# Altium integrated library ICs - Transceivers.IntLib: 1 symbol
Pins are listed as number, name and electrical type; pins without a type are passive.

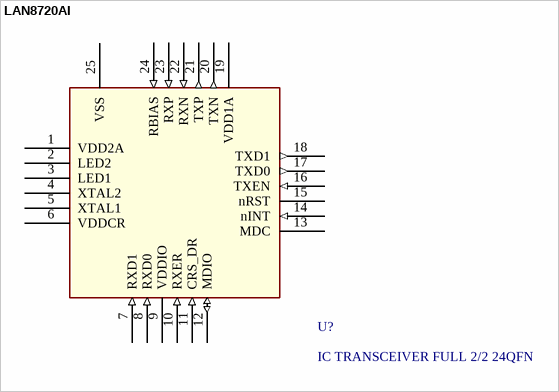
[diagram p0: symbol LAN8720AI]

## LAN8720AI
designator U?, comment IC TRANSCEIVER FULL 2/2 24QFN
2/2 Transceiver Full RMII 24-QFN-EP (4x4); Manufacturer 1: Microchip Technology; Manufacturer 1 PN: LAN8720AI-CP; ComponentLink1Description: Datasheet; ComponentLink1URL: http://ww1.microchip.com/downloads/en/devicedoc/8720a.pdf; Digikey PN: 638-1084-ND; Mouser PN: 886-LAN8720AI-CP
footprint LAN8720AI (2/2 Transceiver Full RMII 24-QFN-EP (4x4))
pins: 1 VDD2A (power), 2 LED2 (power), 3 LED1 (power), 4 XTAL2, 5 XTAL1, 6 VDDCR (power), 7 RXD1 (in), 8 RXD0 (in), 9 VDDIO (power), 10 RXER (in), 11 CRS_DR (in), 12 MDIO (io), 13 MDC, 14 nINT (in), 15 nRST, 16 TXEN (in), 17 TXD0 (out), 18 TXD1 (out), 19 VDD1A (power), 20 TXN (out), 21 TXP (out), 22 RXN (in), 23 RXP (in), 24 RBIAS (in), 25 VSS